# Altium footprint library BV100011_UniversalSlave.PcbLib: 72 footprints (part 5 of 5)
Each footprint in its own frame and in the unit in brackets; x right, y up, seen from the top. Pads: shape width x height; smd on the part's side, far side on the other; paste and mask are expansions set on the pad; w line width, h text height; cw(c..) or ccw(c..) is an arc to the next point about the centre after c.
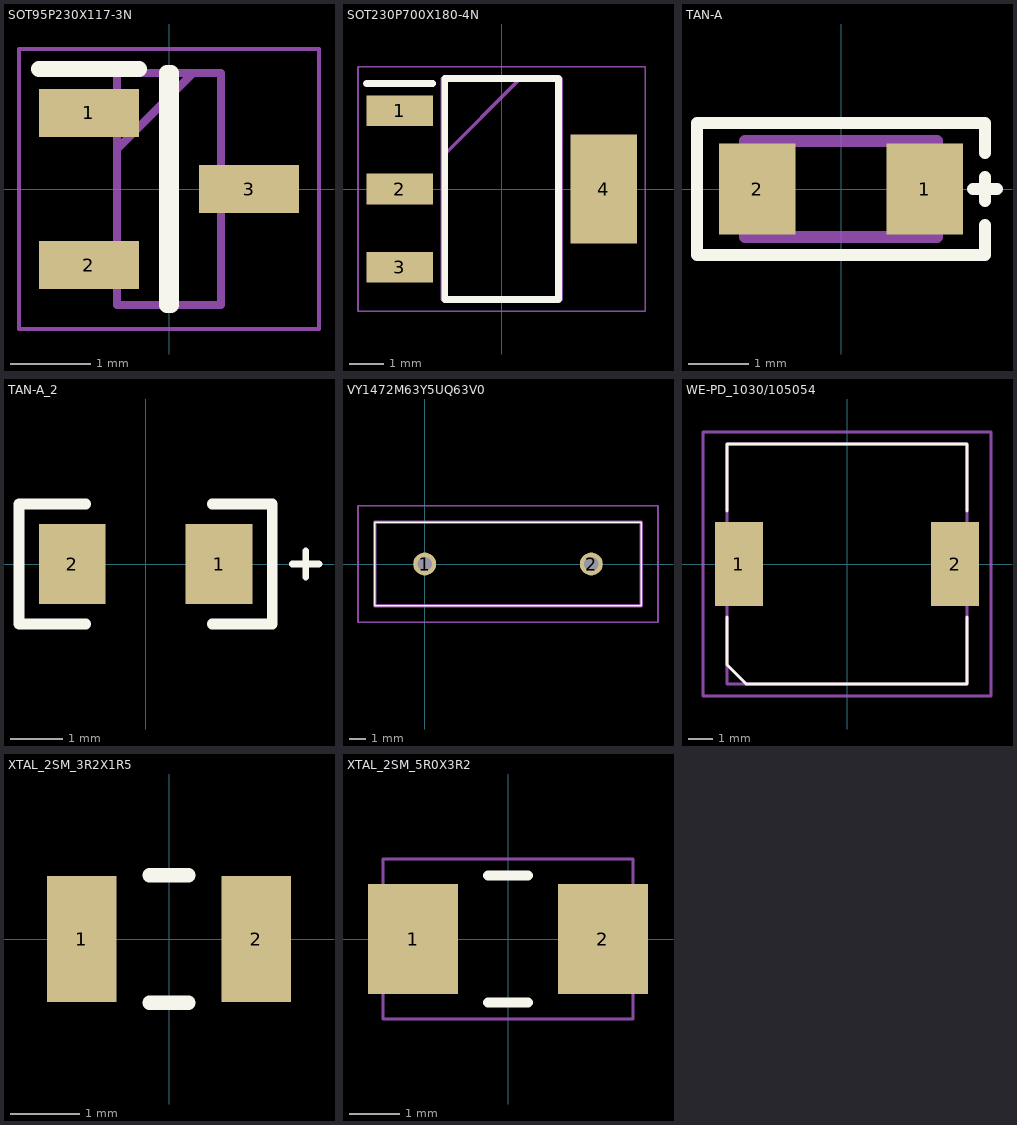
[diagram p4: the footprints below, top view; thin cyan lines are the x and y axes]

## SOT95P230X117-3N [mm]
pads (3):
  rect 1.25x0.6 smd: 1(-1,0.95) 2(-1,-0.95) 3(1,0)
Top Overlay:
  lines w0.2: -1.625,1.5 -0.375,1.5 ; -0.025,-1.45 0.025,-1.45 0.025,1.45 -0.025,1.45 -0.025,-1.45
Mechanical 13:
  lines w0.1: -0.65,0.5 0.3,1.45 ; -0.65,-1.45 0.65,-1.45 0.65,1.45 -0.65,1.45 -0.65,-1.45
Mechanical 15:
  lines w0.05: -1.875,-1.75 1.875,-1.75 1.875,1.75 -1.875,1.75 -1.875,-1.75
3D body "CDSOT23-SM712.stp": height 1.17, standoff 0, extent -1.147,-1.45 1.147,1.45

## SOT230P700X180-4N [mm]
pads (4):
  rect 1.95x0.9 smd: 1(-3,2.3) 2(-3,0) 3(-3,-2.3)
  rect 1.95x3.2 smd: 4(3,0)
Top Overlay:
  lines w0.2: -3.975,3.1 -2.025,3.1 ; -1.675,-3.25 -1.675,3.25 1.675,3.25 1.675,-3.25 -1.675,-3.25
Mechanical 13:
  lines w0.1: -1.75,0.95 0.55,3.25 ; -1.75,-3.25 -1.75,3.25 1.75,3.25 1.75,-3.25 -1.75,-3.25
Mechanical 15:
  lines w0.05: -4.225,-3.6 -4.225,3.6 4.225,3.6 4.225,-3.6 -4.225,-3.6
3D body "BCP56,115.stp": height 1.8, standoff 0, extent -3.5,-3.25 3.5,3.25

## TAN-A [mil]
pads (2):
  rect 50x60 smd: 1(55,0) 2(-55,0)
Top Overlay:
  lines w7.87: 86.61,0 102.36,0 ; 94.49,-23.62 94.49,-43.31 -94.49,-43.31 -94.49,43.31 94.49,43.31 94.49,23.62 ; 94.49,-7.87 94.49,7.87
Mechanical 4:
  region: 39.37,-31.5 62.99,-31.5 62.99,31.5 39.37,31.5
  lines w7.87: -62.99,-31.5 62.99,-31.5 62.99,31.5 -62.99,31.5 -62.99,-31.5

## TAN-A_2 [mil]
pads (2):
  rect 50x60 smd: 1(55,0) 2(-55,0)
Top Overlay:
  lines w5: 110,0 130,0 ; 120,-10 120,10
  lines w8: -45,-45 -95,-45 -95,45 -45,45 ; 50,-45 95,-45 95,45 50,45
3D body: height 39.37, standoff 0, extent -47.24,-35.43 47.24,35.43

## VY1472M63Y5UQ63V0 [mm]
pads (2):
  round 1.381 hole 0.85: 1(0,0) 2(10,0)
Top Overlay:
  lines w0.1: -3,-2.5 -3,2.5 13,2.5 13,-2.5 -3,-2.5
Mechanical 13:
  lines w0.2: -3,-2.5 -3,2.5 13,2.5 13,-2.5 -3,-2.5
Mechanical 15:
  lines w0.1: -4,-3.5 -4,3.5 14,3.5 14,-3.5 -4,-3.5
3D body "VY1472M63Y5UQ63V0.stp": height 19, standoff -5, extent -3,-2.5 13,2.5

## WE-PD_1030/105054 [mm]
pads (2):
  rect 2x3.5 smd: 1(-4.5,0) 2(4.5,0)
Top Overlay:
  lines w0.127: -5,-2.2 -5,-4.2 -4.2,-5 5,-5 5,-2.2 ; -5,2.2 -5,5 5,5 5,2.2
Mechanical 13:
  lines w0.127: -5,-5 5,-5 5,5 -5,5 -5,-5
Mechanical 15:
  lines w0.127: -6,-5.5 6,-5.5 6,5.5 -6,5.5 -6,-5.5

## XTAL_2SM_3R2X1R5 [mm]
pads (2):
  rect 1x1.8 smd: 1(-1.25,0) 2(1.25,0)
Top Overlay:
  lines w0.203: -0.279,-0.914 0.279,-0.914 ; -0.279,0.914 0.279,0.914
3D body "ABS07-120.STEP": height 0.89, standoff 0, extent -1.628,-0.752 1.577,0.752

## XTAL_2SM_5R0X3R2 [mm]
pads (2):
  rect 1.8x2.2 smd: 1(-1.9,0) 2(1.9,0)
Top Overlay:
  lines w0.203: -0.4,-1.27 0.4,-1.27 ; -0.4,1.27 0.4,1.27
Mechanical 13:
  lines w0.051: -2.5,-1.6 2.5,-1.6 2.5,1.6 -2.5,1.6 -2.5,-1.6
3D body: height 1.3, standoff 0, extent -2.5,-1.6 2.5,1.6